# Altium schematic symbol library WT2003S-16S.SchLib: 1 symbol
Pins are listed as number, name and electrical type; pins without a type are passive.

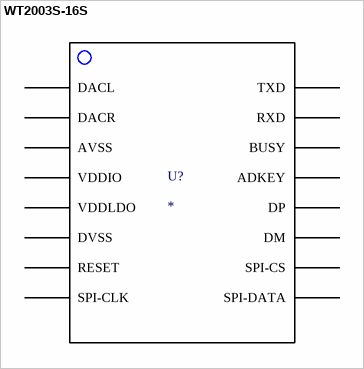
[diagram p0: symbol WT2003S-16S]

## WT2003S-16S
designator U?
PartNumber: WT2003S-16S; Manufacturer: Waytronic; PartDescription: MP3 PLAYER USB STORAGE DEVICE; Package Type: 16 SOP
footprint 16-SOP
pins: 1 DACL, 2 DACR, 3 AVSS, 4 VDDIO, 5 VDDLDO, 6 DVSS, 7 RESET, 8 SPI-CLK, 9 SPI-DATA, 10 SPI-CS, 11 DM, 12 DP, 13 ADKEY, 14 BUSY, 15 RXD, 16 TXD